# Altium integrated library Linear Technology PMIC-Switching Reg LT1074-LT8705.IntLib: 2252 symbols (part 46 of 124)
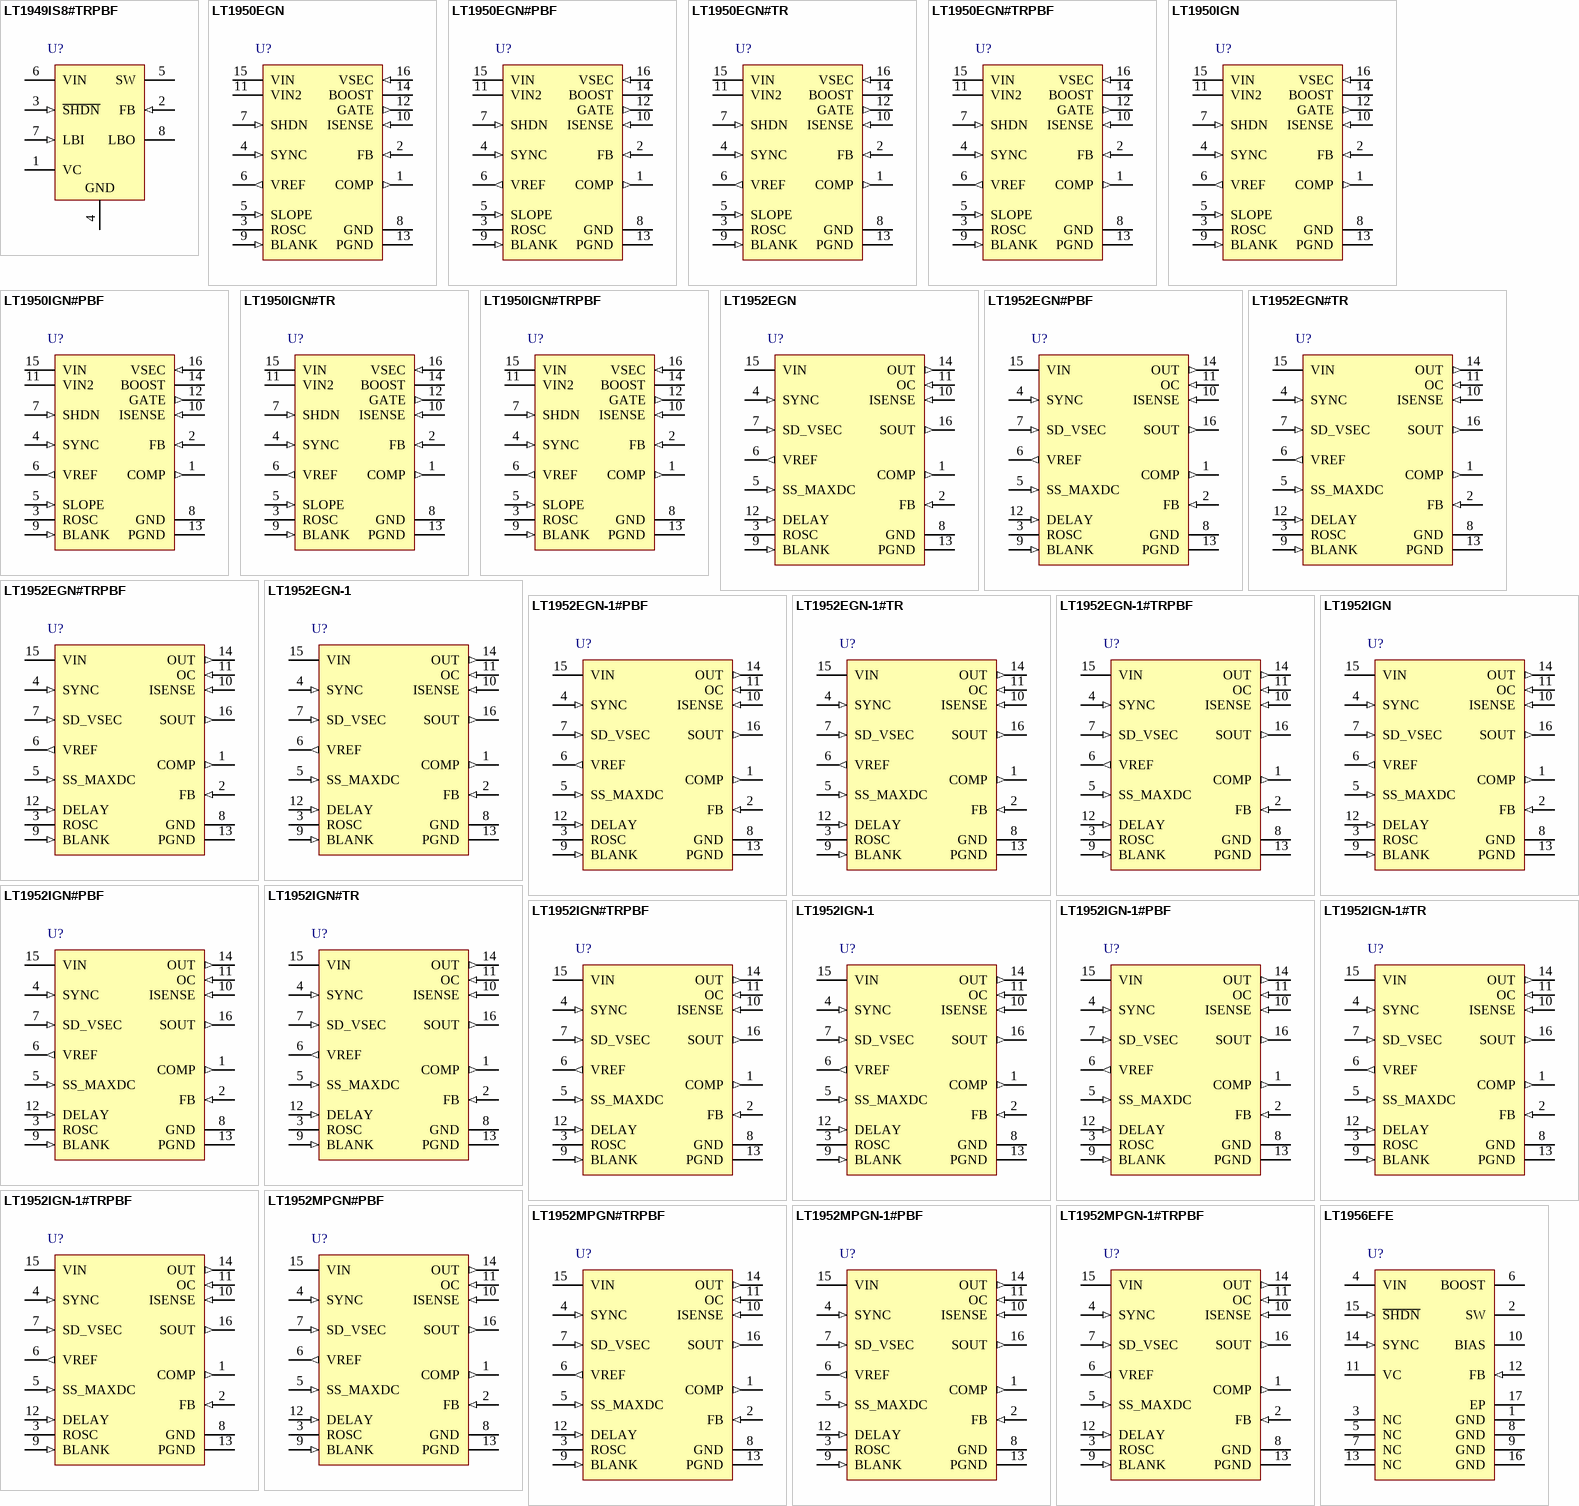
[diagram p116: symbols LT1949IS8#TRPBF to LT1956EFE]

## LT1952IGN#PBF
designator U?
Single Switch Synchronous Forward Controller, 16-pin SOP (GN-16), -40 to 125 degC, Pb-Free; Manufacturer: Linear Technology; PartNumber: LT1952IGN#PBF; Number of Outputs: 1; PackageReference: GN-16; PackageDescription: 16-Pin Plastic SSOP, Body 4.9 x 3.9 mm, Pitch 0.635 mm; Supplier 1: Digi-Key; Supplier Part Number 1: LT1952IGN#PBF-ND; RoHS: TRUE
footprint LT-GN-16_N (SOP, 16-Leads, Body 5x4mm, Pitch 0.635mm, IPC Medium Density)
footprint LT-GN-16_L (SOP, 16-Leads, Body 5x4mm, Pitch 0.635mm, IPC High Density)
footprint LT-GN-16_M (SOP, 16-Leads, Body 5x4mm, Pitch 0.635mm, IPC Low Density)
pins: 1 COMP (out) "Output Pin of the Error Amplifier. The error amplifier is an op amp, allowing various compensation networks to be connected between the COMP pin and FB pin for optimum transient response. The voltage on this pin corresponds (See Datasheet)", 2 FB (in) "Monitors the output voltage via an external resistor divider and is compared with an internal 1.23V reference by the error amplifier. FB connected to VREF disables error amplifier output.", 3 ROSC "A resistor to ground programs the operating frequency of the IC between 100kHz and 500kHz. Nominal voltage on the ROSC pin is 1.0V.", 4 SYNC (in) "Used to Synchronize the Internal Oscillator to an External Signal. It is directly logic compatible and can be driven with any signal between 10% and 90% duty cycle. If unused, the pin can be left open or connected to ground.", 5 SS_MAXDC (in) "External resistor divider from VREF sets maximum duty cycle clamp (SS_MAXDC = 1.84V, SD_VSEC = 1.32V gives 72% duty cycle). Capacitor on SS_MAXDC pin in combination with external resistor divider sets soft-start timing.", 6 VREF (out) "The output of an internal 2.5V reference which supplies control circuitry in the IC. Capable of sourcing up to 2.5mA drive for external use. Bypass to ground with a 0.1uF ceramic capacitor.", 7 SD_VSEC (in) "The SD_VSEC pin, when pulled below its accurate 1.32V threshold, is used to turn off the IC and reduce current drain from VIN. The SD_VSEC pin is connected to system input voltage through a resistor divider to define (See Datasheet)", 8 GND (power) "Analog Ground.", 9 BLANK (in) "A resistor to ground adjusts the extended blanking period of the overcurrent and current sense amplifier outputs during FET turn on-to prevent false current limit trip. Increasing the resistor value increases the blanking (See Datasheet)", 10 ISENSE (in) "The Current Sense Input for the Control Loop. Connect this pin to the sense resistor in the source of the external power MOSFET. A resistor in series with the ISENSE pin programs slope compensation.", 11 OC (in) "An accurate 107mV threshold, independent of duty cycle, for overcurrent detection and trigger of soft-start. Connect this pin directly to the sense resistor in the source of the external power MOSFET.", 12 DELAY (in) "A resistor to ground adjusts the delay period between SOUT rising edge and OUT rising edge. Used to maximize efficiency in forward converter applications by adjusting the control timing of secondary side synchronous (See Datasheet)", 13 PGND (power) "Power Ground.", 14 OUT (out) "Drives the Gate of an N-channel MOSFET between 0V and VIN with a maximum limit of 13V on OUT pin set by an internal clamp. Active pull-off exists in shutdown (see electrical specification).", 15 VIN (power) "Input Supply for the Part. It must be closely decoupled to ground. An internal undervoltage lockout threshold exists for VIN at approximately 14.25V on and 8.75V off for the LT1952. The LT1952-1 has lower undervoltage (See Datasheet)", 16 SOUT (out) "Switched Output in Phase with OUT Pin. Provides sync signal for control of secondary side FETs in forward converter applications requiring highly efficient synchronous rectification. SOUT is actively clamped to 12V. Active (See Datasheet)"

## LT1952IGN#TR
designator U?
Single Switch Synchronous Forward Controller, 16-pin SOP (GN-16), -40 to 125 degC, Tape and Reel; Manufacturer: Linear Technology; PartNumber: LT1952IGN#TR; Number of Outputs: 1; PackageReference: GN-16; PackageDescription: 16-Pin Plastic SSOP, Body 4.9 x 3.9 mm, Pitch 0.635 mm; RoHS: FALSE
footprint LT-GN-16_N (SOP, 16-Leads, Body 5x4mm, Pitch 0.635mm, IPC Medium Density)
footprint LT-GN-16_L (SOP, 16-Leads, Body 5x4mm, Pitch 0.635mm, IPC High Density)
footprint LT-GN-16_M (SOP, 16-Leads, Body 5x4mm, Pitch 0.635mm, IPC Low Density)
pins: 1 COMP (out) "Output Pin of the Error Amplifier. The error amplifier is an op amp, allowing various compensation networks to be connected between the COMP pin and FB pin for optimum transient response. The voltage on this pin corresponds (See Datasheet)", 2 FB (in) "Monitors the output voltage via an external resistor divider and is compared with an internal 1.23V reference by the error amplifier. FB connected to VREF disables error amplifier output.", 3 ROSC "A resistor to ground programs the operating frequency of the IC between 100kHz and 500kHz. Nominal voltage on the ROSC pin is 1.0V.", 4 SYNC (in) "Used to Synchronize the Internal Oscillator to an External Signal. It is directly logic compatible and can be driven with any signal between 10% and 90% duty cycle. If unused, the pin can be left open or connected to ground.", 5 SS_MAXDC (in) "External resistor divider from VREF sets maximum duty cycle clamp (SS_MAXDC = 1.84V, SD_VSEC = 1.32V gives 72% duty cycle). Capacitor on SS_MAXDC pin in combination with external resistor divider sets soft-start timing.", 6 VREF (out) "The output of an internal 2.5V reference which supplies control circuitry in the IC. Capable of sourcing up to 2.5mA drive for external use. Bypass to ground with a 0.1uF ceramic capacitor.", 7 SD_VSEC (in) "The SD_VSEC pin, when pulled below its accurate 1.32V threshold, is used to turn off the IC and reduce current drain from VIN. The SD_VSEC pin is connected to system input voltage through a resistor divider to define (See Datasheet)", 8 GND (power) "Analog Ground.", 9 BLANK (in) "A resistor to ground adjusts the extended blanking period of the overcurrent and current sense amplifier outputs during FET turn on-to prevent false current limit trip. Increasing the resistor value increases the blanking (See Datasheet)", 10 ISENSE (in) "The Current Sense Input for the Control Loop. Connect this pin to the sense resistor in the source of the external power MOSFET. A resistor in series with the ISENSE pin programs slope compensation.", 11 OC (in) "An accurate 107mV threshold, independent of duty cycle, for overcurrent detection and trigger of soft-start. Connect this pin directly to the sense resistor in the source of the external power MOSFET.", 12 DELAY (in) "A resistor to ground adjusts the delay period between SOUT rising edge and OUT rising edge. Used to maximize efficiency in forward converter applications by adjusting the control timing of secondary side synchronous (See Datasheet)", 13 PGND (power) "Power Ground.", 14 OUT (out) "Drives the Gate of an N-channel MOSFET between 0V and VIN with a maximum limit of 13V on OUT pin set by an internal clamp. Active pull-off exists in shutdown (see electrical specification).", 15 VIN (power) "Input Supply for the Part. It must be closely decoupled to ground. An internal undervoltage lockout threshold exists for VIN at approximately 14.25V on and 8.75V off for the LT1952. The LT1952-1 has lower undervoltage (See Datasheet)", 16 SOUT (out) "Switched Output in Phase with OUT Pin. Provides sync signal for control of secondary side FETs in forward converter applications requiring highly efficient synchronous rectification. SOUT is actively clamped to 12V. Active (See Datasheet)"

## LT1952IGN#TRPBF
designator U?
Single Switch Synchronous Forward Controller, 16-pin SOP (GN-16), -40 to 125 degC, Pb-Free, Tape and Reel; Manufacturer: Linear Technology; PartNumber: LT1952IGN#TRPBF; Number of Outputs: 1; PackageReference: GN-16; PackageDescription: 16-Pin Plastic SSOP, Body 4.9 x 3.9 mm, Pitch 0.635 mm; Supplier 1: Digi-Key; Supplier Part Number 1: LT1952IGN#TRPBF-ND; RoHS: TRUE
footprint LT-GN-16_N (SOP, 16-Leads, Body 5x4mm, Pitch 0.635mm, IPC Medium Density)
footprint LT-GN-16_L (SOP, 16-Leads, Body 5x4mm, Pitch 0.635mm, IPC High Density)
footprint LT-GN-16_M (SOP, 16-Leads, Body 5x4mm, Pitch 0.635mm, IPC Low Density)
pins: 1 COMP (out) "Output Pin of the Error Amplifier. The error amplifier is an op amp, allowing various compensation networks to be connected between the COMP pin and FB pin for optimum transient response. The voltage on this pin corresponds (See Datasheet)", 2 FB (in) "Monitors the output voltage via an external resistor divider and is compared with an internal 1.23V reference by the error amplifier. FB connected to VREF disables error amplifier output.", 3 ROSC "A resistor to ground programs the operating frequency of the IC between 100kHz and 500kHz. Nominal voltage on the ROSC pin is 1.0V.", 4 SYNC (in) "Used to Synchronize the Internal Oscillator to an External Signal. It is directly logic compatible and can be driven with any signal between 10% and 90% duty cycle. If unused, the pin can be left open or connected to ground.", 5 SS_MAXDC (in) "External resistor divider from VREF sets maximum duty cycle clamp (SS_MAXDC = 1.84V, SD_VSEC = 1.32V gives 72% duty cycle). Capacitor on SS_MAXDC pin in combination with external resistor divider sets soft-start timing.", 6 VREF (out) "The output of an internal 2.5V reference which supplies control circuitry in the IC. Capable of sourcing up to 2.5mA drive for external use. Bypass to ground with a 0.1uF ceramic capacitor.", 7 SD_VSEC (in) "The SD_VSEC pin, when pulled below its accurate 1.32V threshold, is used to turn off the IC and reduce current drain from VIN. The SD_VSEC pin is connected to system input voltage through a resistor divider to define (See Datasheet)", 8 GND (power) "Analog Ground.", 9 BLANK (in) "A resistor to ground adjusts the extended blanking period of the overcurrent and current sense amplifier outputs during FET turn on-to prevent false current limit trip. Increasing the resistor value increases the blanking (See Datasheet)", 10 ISENSE (in) "The Current Sense Input for the Control Loop. Connect this pin to the sense resistor in the source of the external power MOSFET. A resistor in series with the ISENSE pin programs slope compensation.", 11 OC (in) "An accurate 107mV threshold, independent of duty cycle, for overcurrent detection and trigger of soft-start. Connect this pin directly to the sense resistor in the source of the external power MOSFET.", 12 DELAY (in) "A resistor to ground adjusts the delay period between SOUT rising edge and OUT rising edge. Used to maximize efficiency in forward converter applications by adjusting the control timing of secondary side synchronous (See Datasheet)", 13 PGND (power) "Power Ground.", 14 OUT (out) "Drives the Gate of an N-channel MOSFET between 0V and VIN with a maximum limit of 13V on OUT pin set by an internal clamp. Active pull-off exists in shutdown (see electrical specification).", 15 VIN (power) "Input Supply for the Part. It must be closely decoupled to ground. An internal undervoltage lockout threshold exists for VIN at approximately 14.25V on and 8.75V off for the LT1952. The LT1952-1 has lower undervoltage (See Datasheet)", 16 SOUT (out) "Switched Output in Phase with OUT Pin. Provides sync signal for control of secondary side FETs in forward converter applications requiring highly efficient synchronous rectification. SOUT is actively clamped to 12V. Active (See Datasheet)"

## LT1952IGN-1
designator U?
Single Switch Synchronous Forward Controller, 16-pin SOP (GN-16), -40 to 125 degC; Manufacturer: Linear Technology; PartNumber: LT1952IGN-1; Number of Outputs: 1; PackageReference: GN-16; PackageDescription: 16-Pin Plastic SSOP, Body 4.9 x 3.9 mm, Pitch 0.635 mm; Supplier 1: Newark; Supplier Part Number 1: 57M7318; RoHS: FALSE
footprint LT-GN-16_N (SOP, 16-Leads, Body 5x4mm, Pitch 0.635mm, IPC Medium Density)
footprint LT-GN-16_L (SOP, 16-Leads, Body 5x4mm, Pitch 0.635mm, IPC High Density)
footprint LT-GN-16_M (SOP, 16-Leads, Body 5x4mm, Pitch 0.635mm, IPC Low Density)
pins: 1 COMP (out) "Output Pin of the Error Amplifier. The error amplifier is an op amp, allowing various compensation networks to be connected between the COMP pin and FB pin for optimum transient response. The voltage on this pin corresponds (See Datasheet)", 2 FB (in) "Monitors the output voltage via an external resistor divider and is compared with an internal 1.23V reference by the error amplifier. FB connected to VREF disables error amplifier output.", 3 ROSC "A resistor to ground programs the operating frequency of the IC between 100kHz and 500kHz. Nominal voltage on the ROSC pin is 1.0V.", 4 SYNC (in) "Used to Synchronize the Internal Oscillator to an External Signal. It is directly logic compatible and can be driven with any signal between 10% and 90% duty cycle. If unused, the pin can be left open or connected to ground.", 5 SS_MAXDC (in) "External resistor divider from VREF sets maximum duty cycle clamp (SS_MAXDC = 1.84V, SD_VSEC = 1.32V gives 72% duty cycle). Capacitor on SS_MAXDC pin in combination with external resistor divider sets soft-start timing.", 6 VREF (out) "The output of an internal 2.5V reference which supplies control circuitry in the IC. Capable of sourcing up to 2.5mA drive for external use. Bypass to ground with a 0.1uF ceramic capacitor.", 7 SD_VSEC (in) "The SD_VSEC pin, when pulled below its accurate 1.32V threshold, is used to turn off the IC and reduce current drain from VIN. The SD_VSEC pin is connected to system input voltage through a resistor divider to define (See Datasheet)", 8 GND (power) "Analog Ground.", 9 BLANK (in) "A resistor to ground adjusts the extended blanking period of the overcurrent and current sense amplifier outputs during FET turn on-to prevent false current limit trip. Increasing the resistor value increases the blanking (See Datasheet)", 10 ISENSE (in) "The Current Sense Input for the Control Loop. Connect this pin to the sense resistor in the source of the external power MOSFET. A resistor in series with the ISENSE pin programs slope compensation.", 11 OC (in) "An accurate 107mV threshold, independent of duty cycle, for overcurrent detection and trigger of soft-start. Connect this pin directly to the sense resistor in the source of the external power MOSFET.", 12 DELAY (in) "A resistor to ground adjusts the delay period between SOUT rising edge and OUT rising edge. Used to maximize efficiency in forward converter applications by adjusting the control timing of secondary side synchronous (See Datasheet)", 13 PGND (power) "Power Ground.", 14 OUT (out) "Drives the Gate of an N-channel MOSFET between 0V and VIN with a maximum limit of 13V on OUT pin set by an internal clamp. Active pull-off exists in shutdown (see electrical specification).", 15 VIN (power) "Input Supply for the Part. It must be closely decoupled to ground. An internal undervoltage lockout threshold exists for VIN at approximately 14.25V on and 8.75V off for the LT1952. The LT1952-1 has lower undervoltage (See Datasheet)", 16 SOUT (out) "Switched Output in Phase with OUT Pin. Provides sync signal for control of secondary side FETs in forward converter applications requiring highly efficient synchronous rectification. SOUT is actively clamped to 12V. Active (See Datasheet)"

## LT1952IGN-1#PBF
designator U?
Single Switch Synchronous Forward Controller, 16-pin SOP (GN-16), -40 to 125 degC, Pb-Free; Manufacturer: Linear Technology; PartNumber: LT1952IGN-1#PBF; Number of Outputs: 1; PackageReference: GN-16; PackageDescription: 16-Pin Plastic SSOP, Body 4.9 x 3.9 mm, Pitch 0.635 mm; Supplier 1: Digi-Key; Supplier Part Number 1: LT1952IGN-1#PBF-ND; RoHS: TRUE
footprint LT-GN-16_N (SOP, 16-Leads, Body 5x4mm, Pitch 0.635mm, IPC Medium Density)
footprint LT-GN-16_L (SOP, 16-Leads, Body 5x4mm, Pitch 0.635mm, IPC High Density)
footprint LT-GN-16_M (SOP, 16-Leads, Body 5x4mm, Pitch 0.635mm, IPC Low Density)
pins: 1 COMP (out) "Output Pin of the Error Amplifier. The error amplifier is an op amp, allowing various compensation networks to be connected between the COMP pin and FB pin for optimum transient response. The voltage on this pin corresponds (See Datasheet)", 2 FB (in) "Monitors the output voltage via an external resistor divider and is compared with an internal 1.23V reference by the error amplifier. FB connected to VREF disables error amplifier output.", 3 ROSC "A resistor to ground programs the operating frequency of the IC between 100kHz and 500kHz. Nominal voltage on the ROSC pin is 1.0V.", 4 SYNC (in) "Used to Synchronize the Internal Oscillator to an External Signal. It is directly logic compatible and can be driven with any signal between 10% and 90% duty cycle. If unused, the pin can be left open or connected to ground.", 5 SS_MAXDC (in) "External resistor divider from VREF sets maximum duty cycle clamp (SS_MAXDC = 1.84V, SD_VSEC = 1.32V gives 72% duty cycle). Capacitor on SS_MAXDC pin in combination with external resistor divider sets soft-start timing.", 6 VREF (out) "The output of an internal 2.5V reference which supplies control circuitry in the IC. Capable of sourcing up to 2.5mA drive for external use. Bypass to ground with a 0.1uF ceramic capacitor.", 7 SD_VSEC (in) "The SD_VSEC pin, when pulled below its accurate 1.32V threshold, is used to turn off the IC and reduce current drain from VIN. The SD_VSEC pin is connected to system input voltage through a resistor divider to define (See Datasheet)", 8 GND (power) "Analog Ground.", 9 BLANK (in) "A resistor to ground adjusts the extended blanking period of the overcurrent and current sense amplifier outputs during FET turn on-to prevent false current limit trip. Increasing the resistor value increases the blanking (See Datasheet)", 10 ISENSE (in) "The Current Sense Input for the Control Loop. Connect this pin to the sense resistor in the source of the external power MOSFET. A resistor in series with the ISENSE pin programs slope compensation.", 11 OC (in) "An accurate 107mV threshold, independent of duty cycle, for overcurrent detection and trigger of soft-start. Connect this pin directly to the sense resistor in the source of the external power MOSFET.", 12 DELAY (in) "A resistor to ground adjusts the delay period between SOUT rising edge and OUT rising edge. Used to maximize efficiency in forward converter applications by adjusting the control timing of secondary side synchronous (See Datasheet)", 13 PGND (power) "Power Ground.", 14 OUT (out) "Drives the Gate of an N-channel MOSFET between 0V and VIN with a maximum limit of 13V on OUT pin set by an internal clamp. Active pull-off exists in shutdown (see electrical specification).", 15 VIN (power) "Input Supply for the Part. It must be closely decoupled to ground. An internal undervoltage lockout threshold exists for VIN at approximately 14.25V on and 8.75V off for the LT1952. The LT1952-1 has lower undervoltage (See Datasheet)", 16 SOUT (out) "Switched Output in Phase with OUT Pin. Provides sync signal for control of secondary side FETs in forward converter applications requiring highly efficient synchronous rectification. SOUT is actively clamped to 12V. Active (See Datasheet)"

## LT1952IGN-1#TR
designator U?
Single Switch Synchronous Forward Controller, 16-pin SOP (GN-16), -40 to 125 degC, Tape and Reel; Manufacturer: Linear Technology; PartNumber: LT1952IGN-1#TR; Number of Outputs: 1; PackageReference: GN-16; PackageDescription: 16-Pin Plastic SSOP, Body 4.9 x 3.9 mm, Pitch 0.635 mm; RoHS: FALSE
footprint LT-GN-16_N (SOP, 16-Leads, Body 5x4mm, Pitch 0.635mm, IPC Medium Density)
footprint LT-GN-16_L (SOP, 16-Leads, Body 5x4mm, Pitch 0.635mm, IPC High Density)
footprint LT-GN-16_M (SOP, 16-Leads, Body 5x4mm, Pitch 0.635mm, IPC Low Density)
pins: 1 COMP (out) "Output Pin of the Error Amplifier. The error amplifier is an op amp, allowing various compensation networks to be connected between the COMP pin and FB pin for optimum transient response. The voltage on this pin corresponds (See Datasheet)", 2 FB (in) "Monitors the output voltage via an external resistor divider and is compared with an internal 1.23V reference by the error amplifier. FB connected to VREF disables error amplifier output.", 3 ROSC "A resistor to ground programs the operating frequency of the IC between 100kHz and 500kHz. Nominal voltage on the ROSC pin is 1.0V.", 4 SYNC (in) "Used to Synchronize the Internal Oscillator to an External Signal. It is directly logic compatible and can be driven with any signal between 10% and 90% duty cycle. If unused, the pin can be left open or connected to ground.", 5 SS_MAXDC (in) "External resistor divider from VREF sets maximum duty cycle clamp (SS_MAXDC = 1.84V, SD_VSEC = 1.32V gives 72% duty cycle). Capacitor on SS_MAXDC pin in combination with external resistor divider sets soft-start timing.", 6 VREF (out) "The output of an internal 2.5V reference which supplies control circuitry in the IC. Capable of sourcing up to 2.5mA drive for external use. Bypass to ground with a 0.1uF ceramic capacitor.", 7 SD_VSEC (in) "The SD_VSEC pin, when pulled below its accurate 1.32V threshold, is used to turn off the IC and reduce current drain from VIN. The SD_VSEC pin is connected to system input voltage through a resistor divider to define (See Datasheet)", 8 GND (power) "Analog Ground.", 9 BLANK (in) "A resistor to ground adjusts the extended blanking period of the overcurrent and current sense amplifier outputs during FET turn on-to prevent false current limit trip. Increasing the resistor value increases the blanking (See Datasheet)", 10 ISENSE (in) "The Current Sense Input for the Control Loop. Connect this pin to the sense resistor in the source of the external power MOSFET. A resistor in series with the ISENSE pin programs slope compensation.", 11 OC (in) "An accurate 107mV threshold, independent of duty cycle, for overcurrent detection and trigger of soft-start. Connect this pin directly to the sense resistor in the source of the external power MOSFET.", 12 DELAY (in) "A resistor to ground adjusts the delay period between SOUT rising edge and OUT rising edge. Used to maximize efficiency in forward converter applications by adjusting the control timing of secondary side synchronous (See Datasheet)", 13 PGND (power) "Power Ground.", 14 OUT (out) "Drives the Gate of an N-channel MOSFET between 0V and VIN with a maximum limit of 13V on OUT pin set by an internal clamp. Active pull-off exists in shutdown (see electrical specification).", 15 VIN (power) "Input Supply for the Part. It must be closely decoupled to ground. An internal undervoltage lockout threshold exists for VIN at approximately 14.25V on and 8.75V off for the LT1952. The LT1952-1 has lower undervoltage (See Datasheet)", 16 SOUT (out) "Switched Output in Phase with OUT Pin. Provides sync signal for control of secondary side FETs in forward converter applications requiring highly efficient synchronous rectification. SOUT is actively clamped to 12V. Active (See Datasheet)"

## LT1952IGN-1#TRPBF
designator U?
Single Switch Synchronous Forward Controller, 16-pin SOP (GN-16), -40 to 125 degC, Pb-Free, Tape and Reel; Manufacturer: Linear Technology; PartNumber: LT1952IGN-1#TRPBF; Number of Outputs: 1; PackageReference: GN-16; PackageDescription: 16-Pin Plastic SSOP, Body 4.9 x 3.9 mm, Pitch 0.635 mm; Supplier 1: Digi-Key; Supplier Part Number 1: LT1952IGN-1#TRPBF-ND; RoHS: TRUE
footprint LT-GN-16_N (SOP, 16-Leads, Body 5x4mm, Pitch 0.635mm, IPC Medium Density)
footprint LT-GN-16_L (SOP, 16-Leads, Body 5x4mm, Pitch 0.635mm, IPC High Density)
footprint LT-GN-16_M (SOP, 16-Leads, Body 5x4mm, Pitch 0.635mm, IPC Low Density)
pins: 1 COMP (out) "Output Pin of the Error Amplifier. The error amplifier is an op amp, allowing various compensation networks to be connected between the COMP pin and FB pin for optimum transient response. The voltage on this pin corresponds (See Datasheet)", 2 FB (in) "Monitors the output voltage via an external resistor divider and is compared with an internal 1.23V reference by the error amplifier. FB connected to VREF disables error amplifier output.", 3 ROSC "A resistor to ground programs the operating frequency of the IC between 100kHz and 500kHz. Nominal voltage on the ROSC pin is 1.0V.", 4 SYNC (in) "Used to Synchronize the Internal Oscillator to an External Signal. It is directly logic compatible and can be driven with any signal between 10% and 90% duty cycle. If unused, the pin can be left open or connected to ground.", 5 SS_MAXDC (in) "External resistor divider from VREF sets maximum duty cycle clamp (SS_MAXDC = 1.84V, SD_VSEC = 1.32V gives 72% duty cycle). Capacitor on SS_MAXDC pin in combination with external resistor divider sets soft-start timing.", 6 VREF (out) "The output of an internal 2.5V reference which supplies control circuitry in the IC. Capable of sourcing up to 2.5mA drive for external use. Bypass to ground with a 0.1uF ceramic capacitor.", 7 SD_VSEC (in) "The SD_VSEC pin, when pulled below its accurate 1.32V threshold, is used to turn off the IC and reduce current drain from VIN. The SD_VSEC pin is connected to system input voltage through a resistor divider to define (See Datasheet)", 8 GND (power) "Analog Ground.", 9 BLANK (in) "A resistor to ground adjusts the extended blanking period of the overcurrent and current sense amplifier outputs during FET turn on-to prevent false current limit trip. Increasing the resistor value increases the blanking (See Datasheet)", 10 ISENSE (in) "The Current Sense Input for the Control Loop. Connect this pin to the sense resistor in the source of the external power MOSFET. A resistor in series with the ISENSE pin programs slope compensation.", 11 OC (in) "An accurate 107mV threshold, independent of duty cycle, for overcurrent detection and trigger of soft-start. Connect this pin directly to the sense resistor in the source of the external power MOSFET.", 12 DELAY (in) "A resistor to ground adjusts the delay period between SOUT rising edge and OUT rising edge. Used to maximize efficiency in forward converter applications by adjusting the control timing of secondary side synchronous (See Datasheet)", 13 PGND (power) "Power Ground.", 14 OUT (out) "Drives the Gate of an N-channel MOSFET between 0V and VIN with a maximum limit of 13V on OUT pin set by an internal clamp. Active pull-off exists in shutdown (see electrical specification).", 15 VIN (power) "Input Supply for the Part. It must be closely decoupled to ground. An internal undervoltage lockout threshold exists for VIN at approximately 14.25V on and 8.75V off for the LT1952. The LT1952-1 has lower undervoltage (See Datasheet)", 16 SOUT (out) "Switched Output in Phase with OUT Pin. Provides sync signal for control of secondary side FETs in forward converter applications requiring highly efficient synchronous rectification. SOUT is actively clamped to 12V. Active (See Datasheet)"

## LT1952MPGN#PBF
designator U?
Single Switch Synchronous Forward Controller, 16-pin SOP (GN-16), -55 to 125 degC, Pb-Free; Manufacturer: Linear Technology; PartNumber: LT1952MPGN#PBF; Number of Outputs: 1; PackageReference: GN-16; PackageDescription: 16-Pin Plastic SSOP, Body 4.9 x 3.9 mm, Pitch 0.635 mm; Supplier 1: Digi-Key; Supplier Part Number 1: LT1952MPGN#PBF-ND; RoHS: TRUE
footprint LT-GN-16_N (SOP, 16-Leads, Body 5x4mm, Pitch 0.635mm, IPC Medium Density)
footprint LT-GN-16_L (SOP, 16-Leads, Body 5x4mm, Pitch 0.635mm, IPC High Density)
footprint LT-GN-16_M (SOP, 16-Leads, Body 5x4mm, Pitch 0.635mm, IPC Low Density)
pins: 1 COMP (out) "Output Pin of the Error Amplifier. The error amplifier is an op amp, allowing various compensation networks to be connected between the COMP pin and FB pin for optimum transient response. The voltage on this pin corresponds (See Datasheet)", 2 FB (in) "Monitors the output voltage via an external resistor divider and is compared with an internal 1.23V reference by the error amplifier. FB connected to VREF disables error amplifier output.", 3 ROSC "A resistor to ground programs the operating frequency of the IC between 100kHz and 500kHz. Nominal voltage on the ROSC pin is 1.0V.", 4 SYNC (in) "Used to Synchronize the Internal Oscillator to an External Signal. It is directly logic compatible and can be driven with any signal between 10% and 90% duty cycle. If unused, the pin can be left open or connected to ground.", 5 SS_MAXDC (in) "External resistor divider from VREF sets maximum duty cycle clamp (SS_MAXDC = 1.84V, SD_VSEC = 1.32V gives 72% duty cycle). Capacitor on SS_MAXDC pin in combination with external resistor divider sets soft-start timing.", 6 VREF (out) "The output of an internal 2.5V reference which supplies control circuitry in the IC. Capable of sourcing up to 2.5mA drive for external use. Bypass to ground with a 0.1uF ceramic capacitor.", 7 SD_VSEC (in) "The SD_VSEC pin, when pulled below its accurate 1.32V threshold, is used to turn off the IC and reduce current drain from VIN. The SD_VSEC pin is connected to system input voltage through a resistor divider to define (See Datasheet)", 8 GND (power) "Analog Ground.", 9 BLANK (in) "A resistor to ground adjusts the extended blanking period of the overcurrent and current sense amplifier outputs during FET turn on-to prevent false current limit trip. Increasing the resistor value increases the blanking (See Datasheet)", 10 ISENSE (in) "The Current Sense Input for the Control Loop. Connect this pin to the sense resistor in the source of the external power MOSFET. A resistor in series with the ISENSE pin programs slope compensation.", 11 OC (in) "An accurate 107mV threshold, independent of duty cycle, for overcurrent detection and trigger of soft-start. Connect this pin directly to the sense resistor in the source of the external power MOSFET.", 12 DELAY (in) "A resistor to ground adjusts the delay period between SOUT rising edge and OUT rising edge. Used to maximize efficiency in forward converter applications by adjusting the control timing of secondary side synchronous (See Datasheet)", 13 PGND (power) "Power Ground.", 14 OUT (out) "Drives the Gate of an N-channel MOSFET between 0V and VIN with a maximum limit of 13V on OUT pin set by an internal clamp. Active pull-off exists in shutdown (see electrical specification).", 15 VIN (power) "Input Supply for the Part. It must be closely decoupled to ground. An internal undervoltage lockout threshold exists for VIN at approximately 14.25V on and 8.75V off for the LT1952. The LT1952-1 has lower undervoltage (See Datasheet)", 16 SOUT (out) "Switched Output in Phase with OUT Pin. Provides sync signal for control of secondary side FETs in forward converter applications requiring highly efficient synchronous rectification. SOUT is actively clamped to 12V. Active (See Datasheet)"

## LT1952MPGN#TRPBF
designator U?
Single Switch Synchronous Forward Controller, 16-pin SOP (GN-16), -55 to 125 degC, Pb-Free, Tape and Reel; Manufacturer: Linear Technology; PartNumber: LT1952MPGN#TRPBF; Number of Outputs: 1; PackageReference: GN-16; PackageDescription: 16-Pin Plastic SSOP, Body 4.9 x 3.9 mm, Pitch 0.635 mm; Supplier 1: Digi-Key; Supplier Part Number 1: LT1952MPGN#TRPBF-ND; RoHS: TRUE
footprint LT-GN-16_N (SOP, 16-Leads, Body 5x4mm, Pitch 0.635mm, IPC Medium Density)
footprint LT-GN-16_L (SOP, 16-Leads, Body 5x4mm, Pitch 0.635mm, IPC High Density)
footprint LT-GN-16_M (SOP, 16-Leads, Body 5x4mm, Pitch 0.635mm, IPC Low Density)
pins: 1 COMP (out) "Output Pin of the Error Amplifier. The error amplifier is an op amp, allowing various compensation networks to be connected between the COMP pin and FB pin for optimum transient response. The voltage on this pin corresponds (See Datasheet)", 2 FB (in) "Monitors the output voltage via an external resistor divider and is compared with an internal 1.23V reference by the error amplifier. FB connected to VREF disables error amplifier output.", 3 ROSC "A resistor to ground programs the operating frequency of the IC between 100kHz and 500kHz. Nominal voltage on the ROSC pin is 1.0V.", 4 SYNC (in) "Used to Synchronize the Internal Oscillator to an External Signal. It is directly logic compatible and can be driven with any signal between 10% and 90% duty cycle. If unused, the pin can be left open or connected to ground.", 5 SS_MAXDC (in) "External resistor divider from VREF sets maximum duty cycle clamp (SS_MAXDC = 1.84V, SD_VSEC = 1.32V gives 72% duty cycle). Capacitor on SS_MAXDC pin in combination with external resistor divider sets soft-start timing.", 6 VREF (out) "The output of an internal 2.5V reference which supplies control circuitry in the IC. Capable of sourcing up to 2.5mA drive for external use. Bypass to ground with a 0.1uF ceramic capacitor.", 7 SD_VSEC (in) "The SD_VSEC pin, when pulled below its accurate 1.32V threshold, is used to turn off the IC and reduce current drain from VIN. The SD_VSEC pin is connected to system input voltage through a resistor divider to define (See Datasheet)", 8 GND (power) "Analog Ground.", 9 BLANK (in) "A resistor to ground adjusts the extended blanking period of the overcurrent and current sense amplifier outputs during FET turn on-to prevent false current limit trip. Increasing the resistor value increases the blanking (See Datasheet)", 10 ISENSE (in) "The Current Sense Input for the Control Loop. Connect this pin to the sense resistor in the source of the external power MOSFET. A resistor in series with the ISENSE pin programs slope compensation.", 11 OC (in) "An accurate 107mV threshold, independent of duty cycle, for overcurrent detection and trigger of soft-start. Connect this pin directly to the sense resistor in the source of the external power MOSFET.", 12 DELAY (in) "A resistor to ground adjusts the delay period between SOUT rising edge and OUT rising edge. Used to maximize efficiency in forward converter applications by adjusting the control timing of secondary side synchronous (See Datasheet)", 13 PGND (power) "Power Ground.", 14 OUT (out) "Drives the Gate of an N-channel MOSFET between 0V and VIN with a maximum limit of 13V on OUT pin set by an internal clamp. Active pull-off exists in shutdown (see electrical specification).", 15 VIN (power) "Input Supply for the Part. It must be closely decoupled to ground. An internal undervoltage lockout threshold exists for VIN at approximately 14.25V on and 8.75V off for the LT1952. The LT1952-1 has lower undervoltage (See Datasheet)", 16 SOUT (out) "Switched Output in Phase with OUT Pin. Provides sync signal for control of secondary side FETs in forward converter applications requiring highly efficient synchronous rectification. SOUT is actively clamped to 12V. Active (See Datasheet)"

## LT1952MPGN-1#PBF
designator U?
Single Switch Synchronous Forward Controller, 16-pin SOP (GN-16), -55 to 125 degC, Pb-Free; Manufacturer: Linear Technology; PartNumber: LT1952MPGN-1#PBF; Number of Outputs: 1; PackageReference: GN-16; PackageDescription: 16-Pin Plastic SSOP, Body 4.9 x 3.9 mm, Pitch 0.635 mm; Supplier 1: Digi-Key; Supplier Part Number 1: LT1952MPGN-1#PBF-ND; RoHS: TRUE
footprint LT-GN-16_N (SOP, 16-Leads, Body 5x4mm, Pitch 0.635mm, IPC Medium Density)
footprint LT-GN-16_L (SOP, 16-Leads, Body 5x4mm, Pitch 0.635mm, IPC High Density)
footprint LT-GN-16_M (SOP, 16-Leads, Body 5x4mm, Pitch 0.635mm, IPC Low Density)
pins: 1 COMP (out) "Output Pin of the Error Amplifier. The error amplifier is an op amp, allowing various compensation networks to be connected between the COMP pin and FB pin for optimum transient response. The voltage on this pin corresponds (See Datasheet)", 2 FB (in) "Monitors the output voltage via an external resistor divider and is compared with an internal 1.23V reference by the error amplifier. FB connected to VREF disables error amplifier output.", 3 ROSC "A resistor to ground programs the operating frequency of the IC between 100kHz and 500kHz. Nominal voltage on the ROSC pin is 1.0V.", 4 SYNC (in) "Used to Synchronize the Internal Oscillator to an External Signal. It is directly logic compatible and can be driven with any signal between 10% and 90% duty cycle. If unused, the pin can be left open or connected to ground.", 5 SS_MAXDC (in) "External resistor divider from VREF sets maximum duty cycle clamp (SS_MAXDC = 1.84V, SD_VSEC = 1.32V gives 72% duty cycle). Capacitor on SS_MAXDC pin in combination with external resistor divider sets soft-start timing.", 6 VREF (out) "The output of an internal 2.5V reference which supplies control circuitry in the IC. Capable of sourcing up to 2.5mA drive for external use. Bypass to ground with a 0.1uF ceramic capacitor.", 7 SD_VSEC (in) "The SD_VSEC pin, when pulled below its accurate 1.32V threshold, is used to turn off the IC and reduce current drain from VIN. The SD_VSEC pin is connected to system input voltage through a resistor divider to define (See Datasheet)", 8 GND (power) "Analog Ground.", 9 BLANK (in) "A resistor to ground adjusts the extended blanking period of the overcurrent and current sense amplifier outputs during FET turn on-to prevent false current limit trip. Increasing the resistor value increases the blanking (See Datasheet)", 10 ISENSE (in) "The Current Sense Input for the Control Loop. Connect this pin to the sense resistor in the source of the external power MOSFET. A resistor in series with the ISENSE pin programs slope compensation.", 11 OC (in) "An accurate 107mV threshold, independent of duty cycle, for overcurrent detection and trigger of soft-start. Connect this pin directly to the sense resistor in the source of the external power MOSFET.", 12 DELAY (in) "A resistor to ground adjusts the delay period between SOUT rising edge and OUT rising edge. Used to maximize efficiency in forward converter applications by adjusting the control timing of secondary side synchronous (See Datasheet)", 13 PGND (power) "Power Ground.", 14 OUT (out) "Drives the Gate of an N-channel MOSFET between 0V and VIN with a maximum limit of 13V on OUT pin set by an internal clamp. Active pull-off exists in shutdown (see electrical specification).", 15 VIN (power) "Input Supply for the Part. It must be closely decoupled to ground. An internal undervoltage lockout threshold exists for VIN at approximately 14.25V on and 8.75V off for the LT1952. The LT1952-1 has lower undervoltage (See Datasheet)", 16 SOUT (out) "Switched Output in Phase with OUT Pin. Provides sync signal for control of secondary side FETs in forward converter applications requiring highly efficient synchronous rectification. SOUT is actively clamped to 12V. Active (See Datasheet)"

## LT1952MPGN-1#TRPBF
designator U?
Single Switch Synchronous Forward Controller, 16-pin SOP (GN-16), -55 to 125 degC, Pb-Free, Tape and Reel; Manufacturer: Linear Technology; PartNumber: LT1952MPGN-1#TRPBF; Number of Outputs: 1; PackageReference: GN-16; PackageDescription: 16-Pin Plastic SSOP, Body 4.9 x 3.9 mm, Pitch 0.635 mm; Supplier 1: Digi-Key; Supplier Part Number 1: LT1952MPGN-1#TRPBF-ND; RoHS: TRUE
footprint LT-GN-16_N (SOP, 16-Leads, Body 5x4mm, Pitch 0.635mm, IPC Medium Density)
footprint LT-GN-16_L (SOP, 16-Leads, Body 5x4mm, Pitch 0.635mm, IPC High Density)
footprint LT-GN-16_M (SOP, 16-Leads, Body 5x4mm, Pitch 0.635mm, IPC Low Density)
pins: 1 COMP (out) "Output Pin of the Error Amplifier. The error amplifier is an op amp, allowing various compensation networks to be connected between the COMP pin and FB pin for optimum transient response. The voltage on this pin corresponds (See Datasheet)", 2 FB (in) "Monitors the output voltage via an external resistor divider and is compared with an internal 1.23V reference by the error amplifier. FB connected to VREF disables error amplifier output.", 3 ROSC "A resistor to ground programs the operating frequency of the IC between 100kHz and 500kHz. Nominal voltage on the ROSC pin is 1.0V.", 4 SYNC (in) "Used to Synchronize the Internal Oscillator to an External Signal. It is directly logic compatible and can be driven with any signal between 10% and 90% duty cycle. If unused, the pin can be left open or connected to ground.", 5 SS_MAXDC (in) "External resistor divider from VREF sets maximum duty cycle clamp (SS_MAXDC = 1.84V, SD_VSEC = 1.32V gives 72% duty cycle). Capacitor on SS_MAXDC pin in combination with external resistor divider sets soft-start timing.", 6 VREF (out) "The output of an internal 2.5V reference which supplies control circuitry in the IC. Capable of sourcing up to 2.5mA drive for external use. Bypass to ground with a 0.1uF ceramic capacitor.", 7 SD_VSEC (in) "The SD_VSEC pin, when pulled below its accurate 1.32V threshold, is used to turn off the IC and reduce current drain from VIN. The SD_VSEC pin is connected to system input voltage through a resistor divider to define (See Datasheet)", 8 GND (power) "Analog Ground.", 9 BLANK (in) "A resistor to ground adjusts the extended blanking period of the overcurrent and current sense amplifier outputs during FET turn on-to prevent false current limit trip. Increasing the resistor value increases the blanking (See Datasheet)", 10 ISENSE (in) "The Current Sense Input for the Control Loop. Connect this pin to the sense resistor in the source of the external power MOSFET. A resistor in series with the ISENSE pin programs slope compensation.", 11 OC (in) "An accurate 107mV threshold, independent of duty cycle, for overcurrent detection and trigger of soft-start. Connect this pin directly to the sense resistor in the source of the external power MOSFET.", 12 DELAY (in) "A resistor to ground adjusts the delay period between SOUT rising edge and OUT rising edge. Used to maximize efficiency in forward converter applications by adjusting the control timing of secondary side synchronous (See Datasheet)", 13 PGND (power) "Power Ground.", 14 OUT (out) "Drives the Gate of an N-channel MOSFET between 0V and VIN with a maximum limit of 13V on OUT pin set by an internal clamp. Active pull-off exists in shutdown (see electrical specification).", 15 VIN (power) "Input Supply for the Part. It must be closely decoupled to ground. An internal undervoltage lockout threshold exists for VIN at approximately 14.25V on and 8.75V off for the LT1952. The LT1952-1 has lower undervoltage (See Datasheet)", 16 SOUT (out) "Switched Output in Phase with OUT Pin. Provides sync signal for control of secondary side FETs in forward converter applications requiring highly efficient synchronous rectification. SOUT is actively clamped to 12V. Active (See Datasheet)"

## LT1956EFE
designator U?
High Voltage, 1.5 A, 500 kHz Step-Down Switching Regulator, 16-pin SOP (FE-16-EPV-BB), -40 to 125 degC; Manufacturer: Linear Technology; PartNumber: LT1956EFE; Number of Outputs: 1; PackageReference: FE-16; PackageDescription: 16-Pin Plastic TSSOP, Body 5 x 4.4 mm, Pitch 0.65 mm; Supplier 1: Digi-Key; Supplier Part Number 1: LT1956EFE-ND; RoHS: FALSE
footprint LT-FE-16-EPV-BB_N (SOP, 16-Leads, Body 5.1x4.5mm, Pitch 0.65mm, Thermal Pad 3.58x2.94mm, IPC Medium Density)
footprint LT-FE-16-EPV-BB_L (SOP, 16-Leads, Body 5.1x4.5mm, Pitch 0.65mm, Thermal Pad 3.58x2.94mm, IPC High Density)
footprint LT-FE-16-EPV-BB_M (SOP, 16-Leads, Body 5.1x4.5mm, Pitch 0.65mm, Thermal Pad 3.58x2.94mm, IPC Low Density)
pins: 1 GND (power) "The GND pin connections act as the reference for the regulated output, so load regulation will suffer if the ground end of the load is not at the  same voltage as the GND pins of the IC. This condition will occur when load (See Datasheet)", 2 SW (power) "The switch pin is the emitter of the on-chip power NPN switch. This pin is driven up to the input pin voltage during switch on-time. Inductor current drives the switch pin negative during switch off-time. Negative voltage is (See Datasheet)", 3 NC "No Connection.", 4 VIN (power) "This is the collector of the on-chip power NPN switch. VIN powers the internal control circuitry when a voltage on the BIAS pin is not present. High dI/dt edges occur on this pin during switch turn on and off. Keep the path (See Datasheet)", 5 NC "No Connection.", 6 BOOST "The BOOST pin is used to provide a drive voltage, higher than the input voltage, to the internal bipolar NPN power switch. Without this added voltage, the typical switch voltage loss would be about 1.5V. The additional BOOST (See Datasheet)", 7 NC "No Connection.", 8 GND (power) "The GND pin connections act as the reference for the regulated output, so load regulation will suffer if the ground end of the load is not at the  same voltage as the GND pins of the IC. This condition will occur when load (See Datasheet)", 9 GND (power) "The GND pin connections act as the reference for the regulated output, so load regulation will suffer if the ground end of the load is not at the  same voltage as the GND pins of the IC. This condition will occur when load (See Datasheet)", 10 BIAS (power) "The BIAS pin is used to improve ef?ciency when operating at higher input voltages and light load current. Connecting this pin to the regulated output voltage forces most of the internal circuitry to draw its operating (See Datasheet)", 11 VC, 12 FB (in) "The feedback pin is used to set the output voltage using an external voltage divider that generates 1.22V at the pin for the desired output voltage. The 5V fixed output voltage parts have the divider included on the chip and (See Datasheet)", 13 NC "No Connection.", 14 SYNC (in) "The SYNC pin is used to synchronize the internal oscillator to an external signal. It is directly logic compatible and can be driven with any signal between 10% and 90% duty cycle. The synchronizing range is equal to initial (See Datasheet)", 15 ~{SHDN} (in) "The S\H\D\N\ pin is used to turn off the regulator and to reduce input drain current to a few microamperes. This pin has two thresholds: one at 2.38V to disable switching and a second at 0.4V to force complete  micropower (See Datasheet)", 16 GND (power) "The GND pin connections act as the reference for the regulated output, so load regulation will suffer if the ground end of the load is not at the  same voltage as the GND pins of the IC. This condition will occur when load (See Datasheet)", 17 EP (power) "The GND pin connections act as the reference for the regulated output, so load regulation will suffer if the ground end of the load is not at the  same voltage as the GND pins of the IC. This condition will occur when load (See Datasheet)"

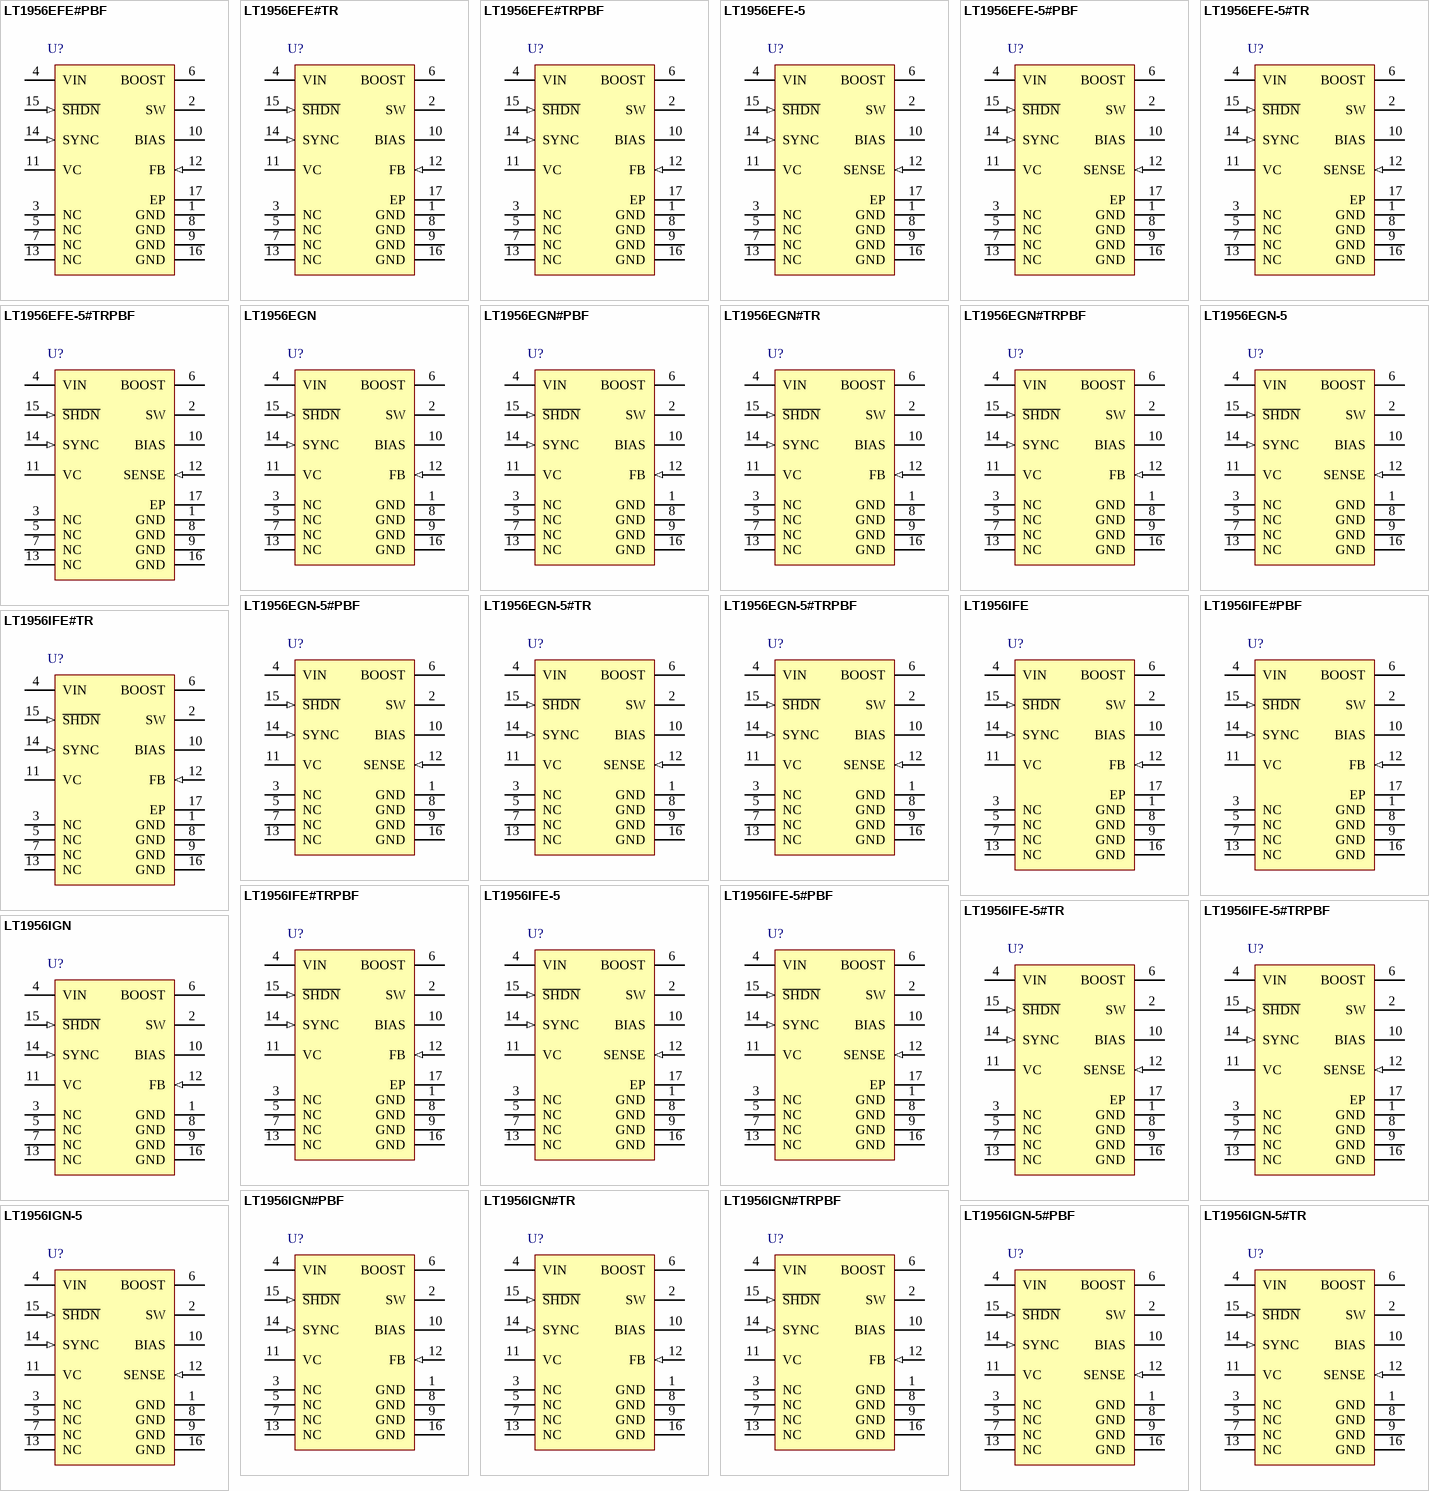
[diagram p29: symbols LT1956EFE#PBF to LT1956IGN-5#TR]